# EAGLE library part MICROUSB_0473461001 (library SLJ_Connectors)
USB - micro B USB 2.0 Receptacle Connector 5 Position Surface Mount, Right Angle
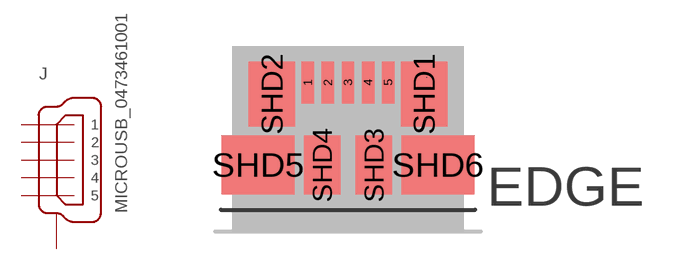
[diagram p1: symbol with the pads of USB_473461001; footprint USB_473461001]

Designator prefix J

## MICROUSB_0473461001 (MANUFACTURER: Molex; PART_NUMBER: 0473461001; VALUE: uUSB-B)  [USB_473461001]
1  1  pas
2  2  pas
3  3  pas
4  4  pas
5  5  pas
SHD1  SHIELD  pas
SHD2  SHIELD  pas
SHD3  SHIELD  pas
SHD4  SHIELD  pas
SHD5  SHIELD  pas
SHD6  SHIELD  pas

## Footprint USB_473461001 (pad centres in mm)
SMT USB OTG FOOTPRINT
smd 0.4 x 1.35: 1 -1.3,2.675; 2 -0.65,2.675; 3 0,2.675; 4 0.65,2.675; 5 1.3,2.675
smd 1.5 x 2.1: SHD1 2.462,2.3; SHD2 -2.462,2.3
smd 1.175 x 1.9: SHD3 0.838,0; SHD4 -0.838,0
smd 2.375 x 1.9: SHD5 -2.913,0; SHD6 2.913,0